# Altium integrated library TI_Logic_Little_Logic.IntLib: 1164 symbols (part 1 of 35)
Pins are listed as number, name and electrical type; pins without a type are passive.

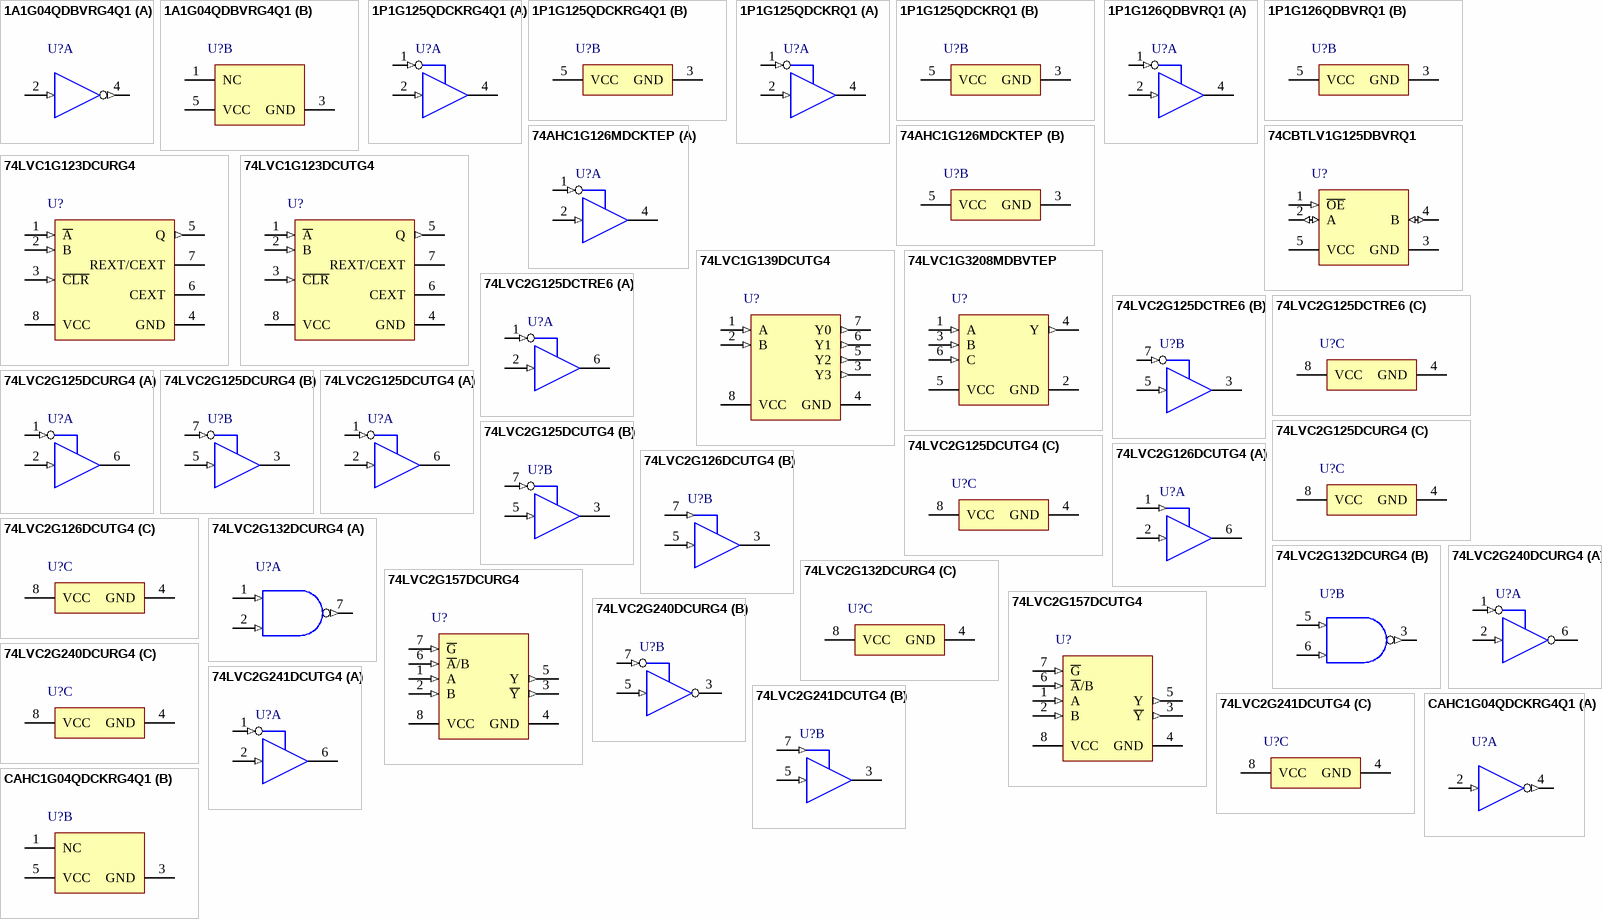
[diagram p0: symbols 1A1G04QDBVRG4Q1 to CAHC1G04QDCKRG4Q1]

## 1A1G04QDBVRG4Q1
designator U?
Automotive Catalog Single Inverter Gate, DBV0005A, LARGE T&R; Generic Part Number: SN74AHC1G04-Q1; Manufacturer: Texas Instruments; PartNumber: 1A1G04QDBVRG4Q1; VCC(Min)(V): 2; VCC(Max)(V): 5.5; Output Type: CMOS; ICC @ Nom Voltage(Max)(mA): 0.01; Bits(#): 1; F @ Nom Voltage(Max)(Mhz): 75; Technology Family: AHC; Voltage(Nom)(V): 3.3,5; Schmitt Trigger: No; Output Drive (IOL/IOH)(Max)(mA): 50/-50; tpd @ Nom Voltage(Max)(ns): 10.6,7.5; Logic: Inverting; Sub-Family: Inverting Buffer/Driver; DatasheetVersion: SCLS540A; PackageReference: DBV0005A; Supplier 1: Mouser; Supplier Part Number 1: 595-1A1G04QDBVRG4Q1; Supplier 2: Digi-Key; Supplier Part Number 2: 1A1G04QDBVRG4Q1-ND; Input Type: CMOS; Operating Temperature Range(C): -40 to 125; Rating: Automotive; 3-State Output: No; ComponentLink1Description: Manufacturer URL; ComponentLink1URL: http://www.ti.com/; ComponentLink2Description: Datasheet; ComponentLink2URL: http://www.ti.com/lit/ds/symlink/sn74ahc1g04-q1.pdf
footprint DBV0005A_N (SOT23, 5-Leads, Body 3.05x1.75mm, Pitch 0.95mm, IPC Medium Density)
footprint DBV0005A_M (SOT23, 5-Leads, Body 3.05x1.75mm, Pitch 0.95mm, IPC Low Density)
footprint DBV0005A_L (SOT23, 5-Leads, Body 3.05x1.75mm, Pitch 0.95mm, IPC High Density)
part A pins: 2 A (in) "Input A", 4 Y (out) "Output Y"
part B pins: 1 NC "Ground", 3 GND (power) "Ground Pin", 5 VCC (power) "Power Pin"

## 1P1G125QDCKRG4Q1
designator U?
Automotive Catalog Single Bus Buffer Gate With 3-State Output, DCK0005A, LARGE T&R; Generic Part Number: SN74LVC1G125-Q1; Manufacturer: Texas Instruments; PartNumber: 1P1G125QDCKRG4Q1; VCC(Min)(V): 1.65; VCC(Max)(V): 5.5; Output Type: CMOS; ICC @ Nom Voltage(Max)(mA): 0.01; Input Type: CMOS/TTL; Bits(#): 1; F @ Nom Voltage(Max)(Mhz): 150; Technology Family: LVC; Voltage(Nom)(V): 1.8,2.5,3.3,5; Schmitt Trigger: No; Output Drive (IOL/IOH)(Max)(mA): 32/-32; tpd @ Nom Voltage(Max)(ns): 5.1,4.1; Logic: True; Sub-Family: Non-Inverting Buffer/Driver; 3-State Output: Yes; DatasheetVersion: SGES002C; PackageReference: DCK0005A; Supplier 1: Mouser; Supplier Part Number 1: 595-1P1G125QDCKRG4Q1; Supplier 2: Digi-Key; Supplier Part Number 2: 296-32004-2-ND; Supplier 3: Digi-Key; Supplier Part Number 3: 296-32004-1-ND; Supplier 4: Digi-Key; Supplier Part Number 4: 296-32004-6-ND; Operating Temperature Range(C): -40 to 125; Rating: Automotive; ComponentLink1Description: Manufacturer URL; ComponentLink1URL: http://www.ti.com/; ComponentLink2Description: Datasheet; ComponentLink2URL: http://www.ti.com/lit/ds/symlink/sn74lvc1g125-q1.pdf
footprint DCK0005A_N (SOT23, 5-Leads, Body 2.15x1.4mm, Pitch 0.65mm, IPC Medium Density)
footprint DCK0005A_M (SOT23, 5-Leads, Body 2.15x1.4mm, Pitch 0.65mm, IPC Low Density)
footprint DCK0005A_L (SOT23, 5-Leads, Body 2.15x1.4mm, Pitch 0.65mm, IPC High Density)
part A pins: 1 ~{OE} (in), 2 A (in), 4 Y (hiz)
part B pins: 3 GND (power), 5 VCC (power)

## 1P1G125QDCKRQ1
designator U?
Automotive Catalog Single Bus Buffer Gate With 3-State Output, DCK0005A, LARGE T&R; Generic Part Number: SN74LVC1G125-Q1; Manufacturer: Texas Instruments; PartNumber: 1P1G125QDCKRQ1; VCC(Min)(V): 1.65; VCC(Max)(V): 5.5; Output Type: CMOS; ICC @ Nom Voltage(Max)(mA): 0.01; Input Type: CMOS/TTL; Bits(#): 1; F @ Nom Voltage(Max)(Mhz): 150; Technology Family: LVC; Voltage(Nom)(V): 1.8,2.5,3.3,5; Schmitt Trigger: No; Output Drive (IOL/IOH)(Max)(mA): 32/-32; tpd @ Nom Voltage(Max)(ns): 5.1,4.1; Logic: True; Sub-Family: Non-Inverting Buffer/Driver; 3-State Output: Yes; DatasheetVersion: SGES002C; PackageReference: DCK0005A; Supplier 1: Mouser; Supplier Part Number 1: 595-1P1G125QDCKRQ1; Supplier 2: Digi-Key; Supplier Part Number 2: 296-18348-2-ND; Supplier 3: Digi-Key; Supplier Part Number 3: 296-18348-1-ND; Supplier 4: Digi-Key; Supplier Part Number 4: 296-18348-6-ND; Operating Temperature Range(C): -40 to 125; Rating: Automotive; ComponentLink1Description: Manufacturer URL; ComponentLink1URL: http://www.ti.com/; ComponentLink2Description: Datasheet; ComponentLink2URL: http://www.ti.com/lit/ds/symlink/sn74lvc1g125-q1.pdf
footprint DCK0005A_N (SOT23, 5-Leads, Body 2.15x1.4mm, Pitch 0.65mm, IPC Medium Density)
footprint DCK0005A_M (SOT23, 5-Leads, Body 2.15x1.4mm, Pitch 0.65mm, IPC Low Density)
footprint DCK0005A_L (SOT23, 5-Leads, Body 2.15x1.4mm, Pitch 0.65mm, IPC High Density)
part A pins: 1 ~{OE} (in), 2 A (in), 4 Y (hiz)
part B pins: 3 GND (power), 5 VCC (power)

## 1P1G126QDBVRQ1
designator U?
Automotive Catalog Single Bus Buffer Gate With 3-State Outputs, DBV0005A, LARGE T&R; Generic Part Number: SN74LVC1G126-Q1; Manufacturer: Texas Instruments; PartNumber: 1P1G126QDBVRQ1; VCC(Min)(V): 1.65; VCC(Max)(V): 5.5; Output Type: CMOS; ICC @ Nom Voltage(Max)(mA): 0.01; Input Type: CMOS/TTL; Bits(#): 1; F @ Nom Voltage(Max)(Mhz): 150; Technology Family: LVC; Voltage(Nom)(V): 1.8,2.5,3.3,5; Schmitt Trigger: No; Output Drive (IOL/IOH)(Max)(mA): 32/-32; tpd @ Nom Voltage(Max)(ns): 5.8,4.5; Logic: True; Sub-Family: Non-Inverting Buffer/Driver; 3-State Output: Yes; DatasheetVersion: SCES467B; PackageReference: DBV0005A; Supplier 1: Mouser; Supplier Part Number 1: 595-1P1G126QDBVRQ1; Supplier 2: Digi-Key; Supplier Part Number 2: 296-23596-2-ND; Supplier 3: Digi-Key; Supplier Part Number 3: 296-23596-1-ND; Supplier 4: Digi-Key; Supplier Part Number 4: 296-23596-6-ND; Operating Temperature Range(C): -40 to 125; Rating: Automotive; ComponentLink1Description: Manufacturer URL; ComponentLink1URL: http://www.ti.com/; ComponentLink2Description: Datasheet; ComponentLink2URL: http://www.ti.com/lit/ds/symlink/sn74lvc1g126-q1.pdf
footprint DBV0005A_N (SOT23, 5-Leads, Body 3.05x1.75mm, Pitch 0.95mm, IPC Medium Density)
footprint DBV0005A_M (SOT23, 5-Leads, Body 3.05x1.75mm, Pitch 0.95mm, IPC Low Density)
footprint DBV0005A_L (SOT23, 5-Leads, Body 3.05x1.75mm, Pitch 0.95mm, IPC High Density)
part A pins: 1 OE (in), 2 A (in), 4 Y (hiz)
part B pins: 3 GND (power), 5 VCC (power)

## 74AHC1G126MDCKTEP
designator U?
Single Bus Buffer Gate With 3-State Output, SN74AHC1G126-EP, DCK0005A, SMALL T&R; Manufacturer: Texas Instruments; PartNumber: 74AHC1G126MDCKTEP; VCC(Min)(V): 2; VCC(Max)(V): 5.5; Output Type: CMOS; Logic: True; ICC @ Nom Voltage(Max)(mA): 0.01; Bits(#): 1; F @ Nom Voltage(Max)(Mhz): 75; Rating: HiRel Enhanced Product; Technology Family: AHC; Voltage(Nom)(V): 3.3,5; Schmitt Trigger: No; Output Drive (IOL/IOH)(Max)(mA): 50/-50; Sub-Family: Non-Inverting Buffer/Driver; 3-State Output: Yes; tpd @ Nom Voltage(Max)(ns): 13,8.5; DatasheetVersion: SCLS731; PackageReference: DCK0005A; Supplier 1: Mouser; Supplier Part Number 1: 595-AHC1G126MDCKTEP; Supplier 2: Digi-Key; Supplier Part Number 2: 296-39839-2-ND; Supplier 3: Digi-Key; Supplier Part Number 3: 296-39839-1-ND; Supplier 4: Digi-Key; Supplier Part Number 4: 296-39839-6-ND; Generic Part Number: SN74AHC1G126-EP; Input Type: CMOS; Operating Temperature Range(C): -55 to 125; ComponentLink1Description: Manufacturer URL; ComponentLink1URL: http://www.ti.com/; ComponentLink2Description: Datasheet; ComponentLink2URL: http://www.ti.com/lit/ds/symlink/sn74ahc1g126-ep.pdf
footprint DCK0005A_N (SOT23, 5-Leads, Body 2.15x1.4mm, Pitch 0.65mm, IPC Medium Density)
footprint DCK0005A_M (SOT23, 5-Leads, Body 2.15x1.4mm, Pitch 0.65mm, IPC Low Density)
footprint DCK0005A_L (SOT23, 5-Leads, Body 2.15x1.4mm, Pitch 0.65mm, IPC High Density)
part A pins: 1 OE (in), 2 A (in), 4 Y (hiz)
part B pins: 3 GND (power), 5 VCC (power)

## 74CBTLV1G125DBVRQ1
designator U?
Automotive Catalog Low-Voltage Single FET Bus Switch, DBV0005A, LARGE T&R; Generic Part Number: SN74CBTLV1G125-Q1; Manufacturer: Texas Instruments; PartNumber: 74CBTLV1G125DBVRQ1; VCC(Min)(V): 2.3; VCC(Max)(V): 3.6; Output Type: CMOS; Logic: True; ICC @ Nom Voltage(Max)(mA): 0.01; Input Type: LV-CMOS; Bits(#): 1; F @ Nom Voltage(Max)(Mhz): 200; Technology Family: CBTLV; Voltage(Nom)(V): 3.3; Schmitt Trigger: No; Sub-Family: Analog Switch; Switch Configuration: SPST; tpd @ Nom Voltage(Max)(ns): 0.25; DatasheetVersion: SCDS289; PackageReference: DBV0005A; Supplier 1: Mouser; Supplier Part Number 1: 595-CBTLV1G125DBVRQ1; Supplier 2: Digi-Key; Supplier Part Number 2: 296-37315-2-ND; Supplier 3: Digi-Key; Supplier Part Number 3: 296-37315-1-ND; Supplier 4: Digi-Key; Supplier Part Number 4: 296-37315-6-ND; Operating Temperature Range(C): -40 to 125; Channels(#): 1; Rating: Automotive; 3-State Output: No; ComponentLink1Description: Manufacturer URL; ComponentLink1URL: http://www.ti.com/; ComponentLink2Description: Datasheet; ComponentLink2URL: http://www.ti.com/lit/ds/symlink/sn74cbtlv1g125-q1.pdf
footprint DBV0005A_N (SOT23, 5-Leads, Body 3.05x1.75mm, Pitch 0.95mm, IPC Medium Density)
footprint DBV0005A_M (SOT23, 5-Leads, Body 3.05x1.75mm, Pitch 0.95mm, IPC Low Density)
footprint DBV0005A_L (SOT23, 5-Leads, Body 3.05x1.75mm, Pitch 0.95mm, IPC High Density)
pins: 1 ~{OE} (in), 2 A (io), 3 GND (power), 4 B (io), 5 VCC (power)

## 74LVC1G123DCURG4
designator U?
Single Retriggerable Monostable Multivibrator with Schmitt-Trigger Inputs, DCU0008A, LARGE T&R; Generic Part Number: SN74LVC1G123; Manufacturer: Texas Instruments; PartNumber: 74LVC1G123DCURG4; VCC(Min)(V): 1.65; VCC(Max)(V): 5.5; Output Type: CMOS; ICC @ Nom Voltage(Max)(mA): 0.02; Input Type: CMOS/TTL; Bits(#): 1; F @ Nom Voltage(Max)(Mhz): 150; Rating: Catalog; Technology Family: LVC; Voltage(Nom)(V): 1.8,2.5,3.3,5; Schmitt Trigger: Yes; Output Drive (IOL/IOH)(Max)(mA): 32/-32; tpd @ Nom Voltage(Max)(ns): 34,11,8,5.5; Logic: True; 3-State Output: No; DatasheetVersion: SCES586C; PackageReference: DCU0008A; Supplier 1: Mouser; Supplier Part Number 1: 595-74LVC1G123DCURG4; Supplier 2: Digi-Key; Supplier Part Number 2: 74LVC1G123DCURG4-ND; Operating Temperature Range(C): -40 to 125,-40 to 85; Sub-Family: Monostable Multivibrator; Specialty Logic Family: Monostable Multivibrator; ComponentLink1Description: Manufacturer URL; ComponentLink1URL: http://www.ti.com/; ComponentLink2Description: Datasheet; ComponentLink2URL: http://www.ti.com/lit/ds/symlink/sn74lvc1g123.pdf
footprint DCU0008A_N (SOP, 8-Leads, Body 2.4x2.1mm, Pitch 0.5mm, IPC Medium Density)
footprint DCU0008A_M (SOP, 8-Leads, Body 2.4x2.1mm, Pitch 0.5mm, IPC Low Density)
footprint DCU0008A_L (SOP, 8-Leads, Body 2.4x2.1mm, Pitch 0.5mm, IPC High Density)
pins: 1 ~{A} (in), 2 B (in), 3 ~{CLR} (in), 4 GND (power), 5 Q (out), 6 CEXT, 7 REXT/CEXT, 8 VCC (power)

## 74LVC1G123DCUTG4
designator U?
Single Retriggerable Monostable Multivibrator with Schmitt-Trigger Inputs, DCU0008A, SMALL T&R; Generic Part Number: SN74LVC1G123; Manufacturer: Texas Instruments; PartNumber: 74LVC1G123DCUTG4; VCC(Min)(V): 1.65; VCC(Max)(V): 5.5; Output Type: CMOS; ICC @ Nom Voltage(Max)(mA): 0.02; Input Type: CMOS/TTL; Bits(#): 1; F @ Nom Voltage(Max)(Mhz): 150; Rating: Catalog; Technology Family: LVC; Voltage(Nom)(V): 1.8,2.5,3.3,5; Schmitt Trigger: Yes; Output Drive (IOL/IOH)(Max)(mA): 32/-32; tpd @ Nom Voltage(Max)(ns): 34,11,8,5.5; Logic: True; 3-State Output: No; DatasheetVersion: SCES586C; PackageReference: DCU0008A; Supplier 1: Mouser; Supplier Part Number 1: 595-74LVC1G123DCUTG4; Supplier 2: Digi-Key; Supplier Part Number 2: 74LVC1G123DCUTG4-ND; Operating Temperature Range(C): -40 to 125,-40 to 85; Sub-Family: Monostable Multivibrator; Specialty Logic Family: Monostable Multivibrator; ComponentLink1Description: Manufacturer URL; ComponentLink1URL: http://www.ti.com/; ComponentLink2Description: Datasheet; ComponentLink2URL: http://www.ti.com/lit/ds/symlink/sn74lvc1g123.pdf
footprint DCU0008A_N (SOP, 8-Leads, Body 2.4x2.1mm, Pitch 0.5mm, IPC Medium Density)
footprint DCU0008A_M (SOP, 8-Leads, Body 2.4x2.1mm, Pitch 0.5mm, IPC Low Density)
footprint DCU0008A_L (SOP, 8-Leads, Body 2.4x2.1mm, Pitch 0.5mm, IPC High Density)
pins: 1 ~{A} (in), 2 B (in), 3 ~{CLR} (in), 4 GND (power), 5 Q (out), 6 CEXT, 7 REXT/CEXT, 8 VCC (power)

## 74LVC1G139DCUTG4
designator U?
2-Line-to-4-Line Decoder, DCU0008A, SMALL T&R; Generic Part Number: SN74LVC1G139; Manufacturer: Texas Instruments; PartNumber: 74LVC1G139DCUTG4; VCC(Min)(V): 1.65; VCC(Max)(V): 5.5; Output Type: CMOS; ICC @ Nom Voltage(Max)(mA): 0.01; Input Type: CMOS/TTL; Bits(#): 1; F @ Nom Voltage(Max)(Mhz): 150; Rating: Catalog; Technology Family: LVC; Voltage(Nom)(V): 1.8,2.5,3.3,5; Schmitt Trigger: No; Output Drive (IOL/IOH)(Max)(mA): 32/-32; tpd @ Nom Voltage(Max)(ns): 16.5,7.5,4.9,3.6; Logic: True; Sub-Family: Decoder/Encoder/Multiplexer; DatasheetVersion: SCES602C; PackageReference: DCU0008A; Supplier 1: Mouser; Supplier Part Number 1: 595-74LVC1G139DCUTG4; Supplier 2: Digi-Key; Supplier Part Number 2: 74LVC1G139DCUTG4-ND; Operating Temperature Range(C): -40 to 85; Specialty Logic Family: Decoder/Encoder/Multiplexer; 3-State Output: No; ComponentLink1Description: Manufacturer URL; ComponentLink1URL: http://www.ti.com/; ComponentLink2Description: Datasheet; ComponentLink2URL: http://www.ti.com/lit/ds/symlink/sn74lvc1g139.pdf
footprint DCU0008A_N (SOP, 8-Leads, Body 2.4x2.1mm, Pitch 0.5mm, IPC Medium Density)
footprint DCU0008A_M (SOP, 8-Leads, Body 2.4x2.1mm, Pitch 0.5mm, IPC Low Density)
footprint DCU0008A_L (SOP, 8-Leads, Body 2.4x2.1mm, Pitch 0.5mm, IPC High Density)
pins: 1 A (in), 2 B (in), 3 Y3 (out), 4 GND (power), 5 Y2 (out), 6 Y1 (out), 7 Y0 (out), 8 VCC (power)

## 74LVC1G3208MDBVTEP
designator U?
Enhanced Product Single 3-Input Positive OR-AND Gate, DBV0006A, SMALL T&R; Generic Part Number: SN74LVC1G3208-EP; Manufacturer: Texas Instruments; PartNumber: 74LVC1G3208MDBVTEP; VCC(Min)(V): 1.65; VCC(Max)(V): 5.5; Output Type: CMOS; Logic: True; ICC @ Nom Voltage(Max)(mA): 0.0125; Input Type: CMOS/TTL; Bits(#): 1; F @ Nom Voltage(Max)(Mhz): 150; Gate Type: Configurable; Rating: HiRel Enhanced Product; Technology Family: LVC; Voltage(Nom)(V): 1.8,2.5,3.3,5; Schmitt Trigger: No; Output Drive (IOL/IOH)(Max)(mA): 32/-32; Sub-Family: Configurable Logic; tpd @ Nom Voltage(Max)(ns): 17.5,7.6,5.9,4.0; DatasheetVersion: SCES846A; PackageReference: DBV0006A; Supplier 1: Mouser; Supplier Part Number 1: 595-74C1G3208MDBVTEP; Supplier 2: Digi-Key; Supplier Part Number 2: 296-41067-2-ND; Supplier 3: Digi-Key; Supplier Part Number 3: 296-41067-1-ND; Supplier 4: Digi-Key; Supplier Part Number 4: 296-41067-6-ND; Operating Temperature Range(C): -55 to 125; 3-State Output: No; ComponentLink1Description: Manufacturer URL; ComponentLink1URL: http://www.ti.com/; ComponentLink2Description: Datasheet; ComponentLink2URL: http://www.ti.com/lit/ds/symlink/sn74lvc1g3208-ep.pdf
footprint DBV0006A_N (SOT23, 6-Leads, Body 3.05x1.75mm, Pitch 0.95mm, IPC Medium Density)
footprint DBV0006A_M (SOT23, 6-Leads, Body 3.05x1.75mm, Pitch 0.95mm, IPC Low Density)
footprint DBV0006A_L (SOT23, 6-Leads, Body 3.05x1.75mm, Pitch 0.95mm, IPC High Density)
pins: 1 A (in), 2 GND (power), 3 B (in), 4 Y (out), 5 VCC (power), 6 C (in)

## 74LVC2G125DCTRE6
designator U?
Dual Bus Buffer Gate with 3-State Outputs, DCT0008A, LARGE T&R; Generic Part Number: SN74LVC2G125; Manufacturer: Texas Instruments; PartNumber: 74LVC2G125DCTRE6; VCC(Min)(V): 1.65; VCC(Max)(V): 5.5; Output Type: CMOS; ICC @ Nom Voltage(Max)(mA): 0.01; Input Type: CMOS/TTL; Bits(#): 2; F @ Nom Voltage(Max)(Mhz): 150; Rating: Catalog; Technology Family: LVC; Voltage(Nom)(V): 1.8,2.5,3.3,5; Schmitt Trigger: No; Output Drive (IOL/IOH)(Max)(mA): 32/-32; tpd @ Nom Voltage(Max)(ns): 9.1,4.8,4.3,3.7; Logic: True; Sub-Family: Non-Inverting Buffer/Driver; 3-State Output: Yes; DatasheetVersion: SCES204O; PackageReference: DCT0008A; Supplier 1: Mouser; Supplier Part Number 1: 595-74LVC2G125DCTRE6; Supplier 2: Digi-Key; Supplier Part Number 2: 296-32006-2-ND; Supplier 3: Digi-Key; Supplier Part Number 3: 296-32006-1-ND; Supplier 4: Digi-Key; Supplier Part Number 4: 296-32006-6-ND; Operating Temperature Range(C): -40 to 125; ComponentLink1Description: Manufacturer URL; ComponentLink1URL: http://www.ti.com/; ComponentLink2Description: Datasheet; ComponentLink2URL: http://www.ti.com/lit/ds/symlink/sn74lvc2g125.pdf
footprint DCT0008A_N (SOP, 8-Leads, Body 2.9x3.2mm, Pitch 0.65mm, IPC Medium Density)
footprint DCT0008A_M (SOP, 8-Leads, Body 2.9x3.2mm, Pitch 0.65mm, IPC Low Density)
footprint DCT0008A_L (SOP, 8-Leads, Body 2.9x3.2mm, Pitch 0.65mm, IPC High Density)
part A pins: 1 1~{OE} (in) "Output Enable for buffer 1", 2 1A (in) "Input", 6 1Y (hiz) "Output"
part B pins: 3 2Y (hiz) "Output", 5 2A (in) "Input", 7 2~{OE} (in) "Output Enable for buffer 2"
part C pins: 4 GND (power) "Ground Pin", 8 VCC (power) "Power Pin"

## 74LVC2G125DCURG4
designator U?
Dual Bus Buffer Gate with 3-State Outputs, DCU0008A, LARGE T&R; Generic Part Number: SN74LVC2G125; Manufacturer: Texas Instruments; PartNumber: 74LVC2G125DCURG4; VCC(Min)(V): 1.65; VCC(Max)(V): 5.5; Output Type: CMOS; ICC @ Nom Voltage(Max)(mA): 0.01; Input Type: CMOS/TTL; Bits(#): 2; F @ Nom Voltage(Max)(Mhz): 150; Rating: Catalog; Technology Family: LVC; Voltage(Nom)(V): 1.8,2.5,3.3,5; Schmitt Trigger: No; Output Drive (IOL/IOH)(Max)(mA): 32/-32; tpd @ Nom Voltage(Max)(ns): 9.1,4.8,4.3,3.7; Logic: True; Sub-Family: Non-Inverting Buffer/Driver; 3-State Output: Yes; DatasheetVersion: SCES204O; PackageReference: DCU0008A; Supplier 1: Mouser; Supplier Part Number 1: 595-74LVC2G125DCURG4; Supplier 2: Digi-Key; Supplier Part Number 2: 296-32007-2-ND; Supplier 3: Digi-Key; Supplier Part Number 3: 296-32007-1-ND; Supplier 4: Digi-Key; Supplier Part Number 4: 296-32007-6-ND; Operating Temperature Range(C): -40 to 125; ComponentLink1Description: Manufacturer URL; ComponentLink1URL: http://www.ti.com/; ComponentLink2Description: Datasheet; ComponentLink2URL: http://www.ti.com/lit/ds/symlink/sn74lvc2g125.pdf
footprint DCU0008A_N (SOP, 8-Leads, Body 2.4x2.1mm, Pitch 0.5mm, IPC Medium Density)
footprint DCU0008A_M (SOP, 8-Leads, Body 2.4x2.1mm, Pitch 0.5mm, IPC Low Density)
footprint DCU0008A_L (SOP, 8-Leads, Body 2.4x2.1mm, Pitch 0.5mm, IPC High Density)
part A pins: 1 1~{OE} (in) "Output Enable for buffer 1", 2 1A (in) "Input", 6 1Y (hiz) "Output"
part B pins: 3 2Y (hiz) "Output", 5 2A (in) "Input", 7 2~{OE} (in) "Output Enable for buffer 2"
part C pins: 4 GND (power) "Ground Pin", 8 VCC (power) "Power Pin"

## 74LVC2G125DCUTG4
designator U?
Dual Bus Buffer Gate with 3-State Outputs, DCU0008A, SMALL T&R; Generic Part Number: SN74LVC2G125; Manufacturer: Texas Instruments; PartNumber: 74LVC2G125DCUTG4; VCC(Min)(V): 1.65; VCC(Max)(V): 5.5; Output Type: CMOS; ICC @ Nom Voltage(Max)(mA): 0.01; Input Type: CMOS/TTL; Bits(#): 2; F @ Nom Voltage(Max)(Mhz): 150; Rating: Catalog; Technology Family: LVC; Voltage(Nom)(V): 1.8,2.5,3.3,5; Schmitt Trigger: No; Output Drive (IOL/IOH)(Max)(mA): 32/-32; tpd @ Nom Voltage(Max)(ns): 9.1,4.8,4.3,3.7; Logic: True; Sub-Family: Non-Inverting Buffer/Driver; 3-State Output: Yes; DatasheetVersion: SCES204O; PackageReference: DCU0008A; Supplier 1: Mouser; Supplier Part Number 1: 595-74LVC2G125DCUTG4; Supplier 2: Digi-Key; Supplier Part Number 2: 74LVC2G125DCUTG4-ND; Operating Temperature Range(C): -40 to 125; ComponentLink1Description: Manufacturer URL; ComponentLink1URL: http://www.ti.com/; ComponentLink2Description: Datasheet; ComponentLink2URL: http://www.ti.com/lit/ds/symlink/sn74lvc2g125.pdf
footprint DCU0008A_N (SOP, 8-Leads, Body 2.4x2.1mm, Pitch 0.5mm, IPC Medium Density)
footprint DCU0008A_M (SOP, 8-Leads, Body 2.4x2.1mm, Pitch 0.5mm, IPC Low Density)
footprint DCU0008A_L (SOP, 8-Leads, Body 2.4x2.1mm, Pitch 0.5mm, IPC High Density)
part A pins: 1 1~{OE} (in) "Output Enable for buffer 1", 2 1A (in) "Input", 6 1Y (hiz) "Output"
part B pins: 3 2Y (hiz) "Output", 5 2A (in) "Input", 7 2~{OE} (in) "Output Enable for buffer 2"
part C pins: 4 GND (power) "Ground Pin", 8 VCC (power) "Power Pin"

## 74LVC2G126DCUTG4
designator U?
Dual Bus Buffer Gate With 3-State Outputs, DCU0008A, SMALL T&R; Generic Part Number: SN74LVC2G126; Manufacturer: Texas Instruments; PartNumber: 74LVC2G126DCUTG4; VCC(Min)(V): 1.65; VCC(Max)(V): 5.5; Output Type: CMOS; ICC @ Nom Voltage(Max)(mA): 0.01; Input Type: CMOS/TTL; Bits(#): 2; F @ Nom Voltage(Max)(Mhz): 150; Rating: Catalog; Technology Family: LVC; Voltage(Nom)(V): 1.8,2.5,3.3,5; Schmitt Trigger: No; Output Drive (IOL/IOH)(Max)(mA): 32/-32; tpd @ Nom Voltage(Max)(ns): 9.8,4.9,4,3.2; Logic: True; Sub-Family: Non-Inverting Buffer/Driver; 3-State Output: Yes; DatasheetVersion: SCES205L; PackageReference: DCU0008A; Supplier 1: Mouser; Supplier Part Number 1: 595-74LVC2G126DCUTG4; Supplier 2: Digi-Key; Supplier Part Number 2: 74LVC2G126DCUTG4-ND; Operating Temperature Range(C): -40 to 125; ComponentLink1Description: Manufacturer URL; ComponentLink1URL: http://www.ti.com/; ComponentLink2Description: Datasheet; ComponentLink2URL: http://www.ti.com/lit/ds/symlink/sn74lvc2g126.pdf
footprint DCU0008A_N (SOP, 8-Leads, Body 2.4x2.1mm, Pitch 0.5mm, IPC Medium Density)
footprint DCU0008A_M (SOP, 8-Leads, Body 2.4x2.1mm, Pitch 0.5mm, IPC Low Density)
footprint DCU0008A_L (SOP, 8-Leads, Body 2.4x2.1mm, Pitch 0.5mm, IPC High Density)
part A pins: 1 1OE (in), 2 1A (in), 6 1Y (hiz)
part B pins: 3 2Y (hiz), 5 2A (in), 7 2OE (in)
part C pins: 4 GND (power) "Ground Pin", 8 VCC (power) "Power Pin"

## 74LVC2G132DCURG4
designator U?
Dual 2-Input NAND Gate with Schmitt-Trigger Inputs, DCU0008A, LARGE T&R; Generic Part Number: SN74LVC2G132; Manufacturer: Texas Instruments; PartNumber: 74LVC2G132DCURG4; VCC(Min)(V): 1.65; VCC(Max)(V): 5.5; Output Type: CMOS; ICC @ Nom Voltage(Max)(mA): 0.01; Input Type: CMOS/TTL; Bits(#): 2; F @ Nom Voltage(Max)(Mhz): 150; Rating: Catalog; Technology Family: LVC; Voltage(Nom)(V): 1.8,2.5,3.3,5; Schmitt Trigger: Yes; Output Drive (IOL/IOH)(Max)(mA): 32/-32; tpd @ Nom Voltage(Max)(ns): 16,7.5,6,5; Logic: True; 3-State Output: No; DatasheetVersion: SCES547D; PackageReference: DCU0008A; Supplier 1: Mouser; Supplier Part Number 1: 595-74LVC2G132DCURG4; Supplier 2: Digi-Key; Supplier Part Number 2: 74LVC2G132DCURG4-ND; Operating Temperature Range(C): -40 to 125,-40 to 85; Gate Type: NAND; Sub-Family: AND Gate; ComponentLink1Description: Manufacturer URL; ComponentLink1URL: http://www.ti.com/; ComponentLink2Description: Datasheet; ComponentLink2URL: http://www.ti.com/lit/ds/symlink/sn74lvc2g132.pdf
footprint DCU0008A_N (SOP, 8-Leads, Body 2.4x2.1mm, Pitch 0.5mm, IPC Medium Density)
footprint DCU0008A_M (SOP, 8-Leads, Body 2.4x2.1mm, Pitch 0.5mm, IPC Low Density)
footprint DCU0008A_L (SOP, 8-Leads, Body 2.4x2.1mm, Pitch 0.5mm, IPC High Density)
part A pins: 1 1A (in) "A input for gate 1", 2 1B (in) "B input for gate 1", 7 1Y (out) "Output for gate 1"
part B pins: 3 2Y (out) "Output for gate 2", 5 2A (in) "A input for gate 2", 6 2B (in) "B input for gate 2"
part C pins: 4 GND (power) "Ground", 8 VCC (power) "Power input."

## 74LVC2G157DCURG4
designator U?
Single 2-Line to 1-Line Data Selector/Multiplexer, DCU0008A, LARGE T&R; Generic Part Number: SN74LVC2G157; Manufacturer: Texas Instruments; PartNumber: 74LVC2G157DCURG4; VCC(Min)(V): 1.65; VCC(Max)(V): 5.5; Output Type: CMOS; ICC @ Nom Voltage(Max)(mA): 0.01; Input Type: CMOS/TTL; Bits(#): 2; F @ Nom Voltage(Max)(Mhz): 150; Rating: Catalog; Technology Family: LVC; Voltage(Nom)(V): 1.8,2.5,3.3,5; Schmitt Trigger: No; Output Drive (IOL/IOH)(Max)(mA): 32/-32; tpd @ Nom Voltage(Max)(ns): 14,8,6,4; Logic: True; Sub-Family: Decoder/Encoder/Multiplexer; DatasheetVersion: SCES207L; PackageReference: DCU0008A; Supplier 1: Mouser; Supplier Part Number 1: 595-74LVC2G157DCURG4; Supplier 2: Digi-Key; Supplier Part Number 2: 74LVC2G157DCURG4-ND; Operating Temperature Range(C): -40 to 85; Specialty Logic Family: Decoder/Encoder/Multiplexer; 3-State Output: No; ComponentLink1Description: Manufacturer URL; ComponentLink1URL: http://www.ti.com/; ComponentLink2Description: Datasheet; ComponentLink2URL: http://www.ti.com/lit/ds/symlink/sn74lvc2g157.pdf
footprint DCU0008A_N (SOP, 8-Leads, Body 2.4x2.1mm, Pitch 0.5mm, IPC Medium Density)
footprint DCU0008A_M (SOP, 8-Leads, Body 2.4x2.1mm, Pitch 0.5mm, IPC Low Density)
footprint DCU0008A_L (SOP, 8-Leads, Body 2.4x2.1mm, Pitch 0.5mm, IPC High Density)
pins: 1 A (in), 2 B (in), 3 ~{Y} (out), 4 GND (power), 5 Y (out), 6 ~{A}/B (in), 7 ~{G} (in), 8 VCC (power)

## 74LVC2G157DCUTG4
designator U?
Single 2-Line to 1-Line Data Selector/Multiplexer, DCU0008A, SMALL T&R; Generic Part Number: SN74LVC2G157; Manufacturer: Texas Instruments; PartNumber: 74LVC2G157DCUTG4; VCC(Min)(V): 1.65; VCC(Max)(V): 5.5; Output Type: CMOS; ICC @ Nom Voltage(Max)(mA): 0.01; Input Type: CMOS/TTL; Bits(#): 2; F @ Nom Voltage(Max)(Mhz): 150; Rating: Catalog; Technology Family: LVC; Voltage(Nom)(V): 1.8,2.5,3.3,5; Schmitt Trigger: No; Output Drive (IOL/IOH)(Max)(mA): 32/-32; tpd @ Nom Voltage(Max)(ns): 14,8,6,4; Logic: True; Sub-Family: Decoder/Encoder/Multiplexer; DatasheetVersion: SCES207L; PackageReference: DCU0008A; Supplier 1: Mouser; Supplier Part Number 1: 595-74LVC2G157DCUTG4; Supplier 2: Digi-Key; Supplier Part Number 2: 74LVC2G157DCUTG4-ND; Operating Temperature Range(C): -40 to 85; Specialty Logic Family: Decoder/Encoder/Multiplexer; 3-State Output: No; ComponentLink1Description: Manufacturer URL; ComponentLink1URL: http://www.ti.com/; ComponentLink2Description: Datasheet; ComponentLink2URL: http://www.ti.com/lit/ds/symlink/sn74lvc2g157.pdf
footprint DCU0008A_N (SOP, 8-Leads, Body 2.4x2.1mm, Pitch 0.5mm, IPC Medium Density)
footprint DCU0008A_M (SOP, 8-Leads, Body 2.4x2.1mm, Pitch 0.5mm, IPC Low Density)
footprint DCU0008A_L (SOP, 8-Leads, Body 2.4x2.1mm, Pitch 0.5mm, IPC High Density)
pins: 1 A (in), 2 B (in), 3 ~{Y} (out), 4 GND (power), 5 Y (out), 6 ~{A}/B (in), 7 ~{G} (in), 8 VCC (power)

## 74LVC2G240DCURG4
designator U?
Dual Buffer/Driver With 3-State Outputs, DCU0008A, LARGE T&R; Generic Part Number: SN74LVC2G240; Manufacturer: Texas Instruments; PartNumber: 74LVC2G240DCURG4; VCC(Min)(V): 1.65; VCC(Max)(V): 5.5; Output Type: CMOS; ICC @ Nom Voltage(Max)(mA): 0.01; Input Type: CMOS/TTL; Bits(#): 2; F @ Nom Voltage(Max)(Mhz): 150; Rating: Catalog; Technology Family: LVC; Voltage(Nom)(V): 1.8,2.5,3.3,5; Schmitt Trigger: No; Output Drive (IOL/IOH)(Max)(mA): 32/-32; tpd @ Nom Voltage(Max)(ns): 13.7,6.8,5.8,5; Logic: Inverting; Sub-Family: Non-Inverting Buffer/Driver; 3-State Output: Yes; DatasheetVersion: SCES208I; PackageReference: DCU0008A; Supplier 1: Mouser; Supplier Part Number 1: 595-74LVC2G240DCURG4; Supplier 2: Digi-Key; Supplier Part Number 2: 74LVC2G240DCURG4-ND; Operating Temperature Range(C): -40 to 125; ComponentLink1Description: Manufacturer URL; ComponentLink1URL: http://www.ti.com/; ComponentLink2Description: Datasheet; ComponentLink2URL: http://www.ti.com/lit/ds/symlink/sn74lvc2g240.pdf
footprint DCU0008A_N (SOP, 8-Leads, Body 2.4x2.1mm, Pitch 0.5mm, IPC Medium Density)
footprint DCU0008A_M (SOP, 8-Leads, Body 2.4x2.1mm, Pitch 0.5mm, IPC Low Density)
footprint DCU0008A_L (SOP, 8-Leads, Body 2.4x2.1mm, Pitch 0.5mm, IPC High Density)
part A pins: 1 1~{OE} (in), 2 1A (in), 6 1Y (hiz)
part B pins: 3 2Y (hiz), 5 2A (in), 7 2~{OE} (in)
part C pins: 4 GND (power), 8 VCC (power)

## 74LVC2G241DCUTG4
designator U?
Dual Buffer/Driver With 3-State Outputs, DCU0008A, SMALL T&R; Generic Part Number: SN74LVC2G241; Manufacturer: Texas Instruments; PartNumber: 74LVC2G241DCUTG4; VCC(Min)(V): 1.65; VCC(Max)(V): 5.5; Output Type: CMOS; ICC @ Nom Voltage(Max)(mA): 0.01; Input Type: CMOS/TTL; Bits(#): 2; F @ Nom Voltage(Max)(Mhz): 150; Rating: Catalog; Technology Family: LVC; Voltage(Nom)(V): 1.8,2.5,3.3,5; Schmitt Trigger: No; Output Drive (IOL/IOH)(Max)(mA): 32/-32; tpd @ Nom Voltage(Max)(ns): 8.8,4.8,4.3,3.7; Logic: True; Sub-Family: Non-Inverting Buffer/Driver; 3-State Output: Yes; DatasheetVersion: SCES210N; PackageReference: DCU0008A; Supplier 1: Mouser; Supplier Part Number 1: 595-74LVC2G241DCUTG4; Supplier 2: Digi-Key; Supplier Part Number 2: 74LVC2G241DCUTG4-ND; Operating Temperature Range(C): -40 to 125; ComponentLink1Description: Manufacturer URL; ComponentLink1URL: http://www.ti.com/; ComponentLink2Description: Datasheet; ComponentLink2URL: http://www.ti.com/lit/ds/symlink/sn74lvc2g241.pdf
footprint DCU0008A_N (SOP, 8-Leads, Body 2.4x2.1mm, Pitch 0.5mm, IPC Medium Density)
footprint DCU0008A_M (SOP, 8-Leads, Body 2.4x2.1mm, Pitch 0.5mm, IPC Low Density)
footprint DCU0008A_L (SOP, 8-Leads, Body 2.4x2.1mm, Pitch 0.5mm, IPC High Density)
part A pins: 1 1~{OE} (in), 2 1A (in), 6 1Y (hiz)
part B pins: 3 2Y (hiz), 5 2A (in), 7 2OE (in)
part C pins: 4 GND (power), 8 VCC (power)

## CAHC1G04QDCKRG4Q1
designator U?
Automotive Catalog Single Inverter Gate, DCK0005A, LARGE T&R; Generic Part Number: SN74AHC1G04-Q1; Manufacturer: Texas Instruments; PartNumber: CAHC1G04QDCKRG4Q1; VCC(Min)(V): 2; VCC(Max)(V): 5.5; Output Type: CMOS; ICC @ Nom Voltage(Max)(mA): 0.01; Bits(#): 1; F @ Nom Voltage(Max)(Mhz): 75; Technology Family: AHC; Voltage(Nom)(V): 3.3,5; Schmitt Trigger: No; Output Drive (IOL/IOH)(Max)(mA): 50/-50; tpd @ Nom Voltage(Max)(ns): 10.6,7.5; Logic: Inverting; Sub-Family: Inverting Buffer/Driver; DatasheetVersion: SCLS540A; PackageReference: DCK0005A; Supplier 1: Mouser; Supplier Part Number 1: 595-AHC1G04QDCKRG4Q1; Supplier 2: Digi-Key; Supplier Part Number 2: CAHC1G04QDCKRG4Q1-ND; Input Type: CMOS; Operating Temperature Range(C): -40 to 125; Rating: Automotive; 3-State Output: No; ComponentLink1Description: Manufacturer URL; ComponentLink1URL: http://www.ti.com/; ComponentLink2Description: Datasheet; ComponentLink2URL: http://www.ti.com/lit/ds/symlink/sn74ahc1g04-q1.pdf
footprint DCK0005A_N (SOT23, 5-Leads, Body 2.15x1.4mm, Pitch 0.65mm, IPC Medium Density)
footprint DCK0005A_M (SOT23, 5-Leads, Body 2.15x1.4mm, Pitch 0.65mm, IPC Low Density)
footprint DCK0005A_L (SOT23, 5-Leads, Body 2.15x1.4mm, Pitch 0.65mm, IPC High Density)
part A pins: 2 A (in) "Input A", 4 Y (out) "Output Y"
part B pins: 1 NC "Ground", 3 GND (power) "Ground Pin", 5 VCC (power) "Power Pin"

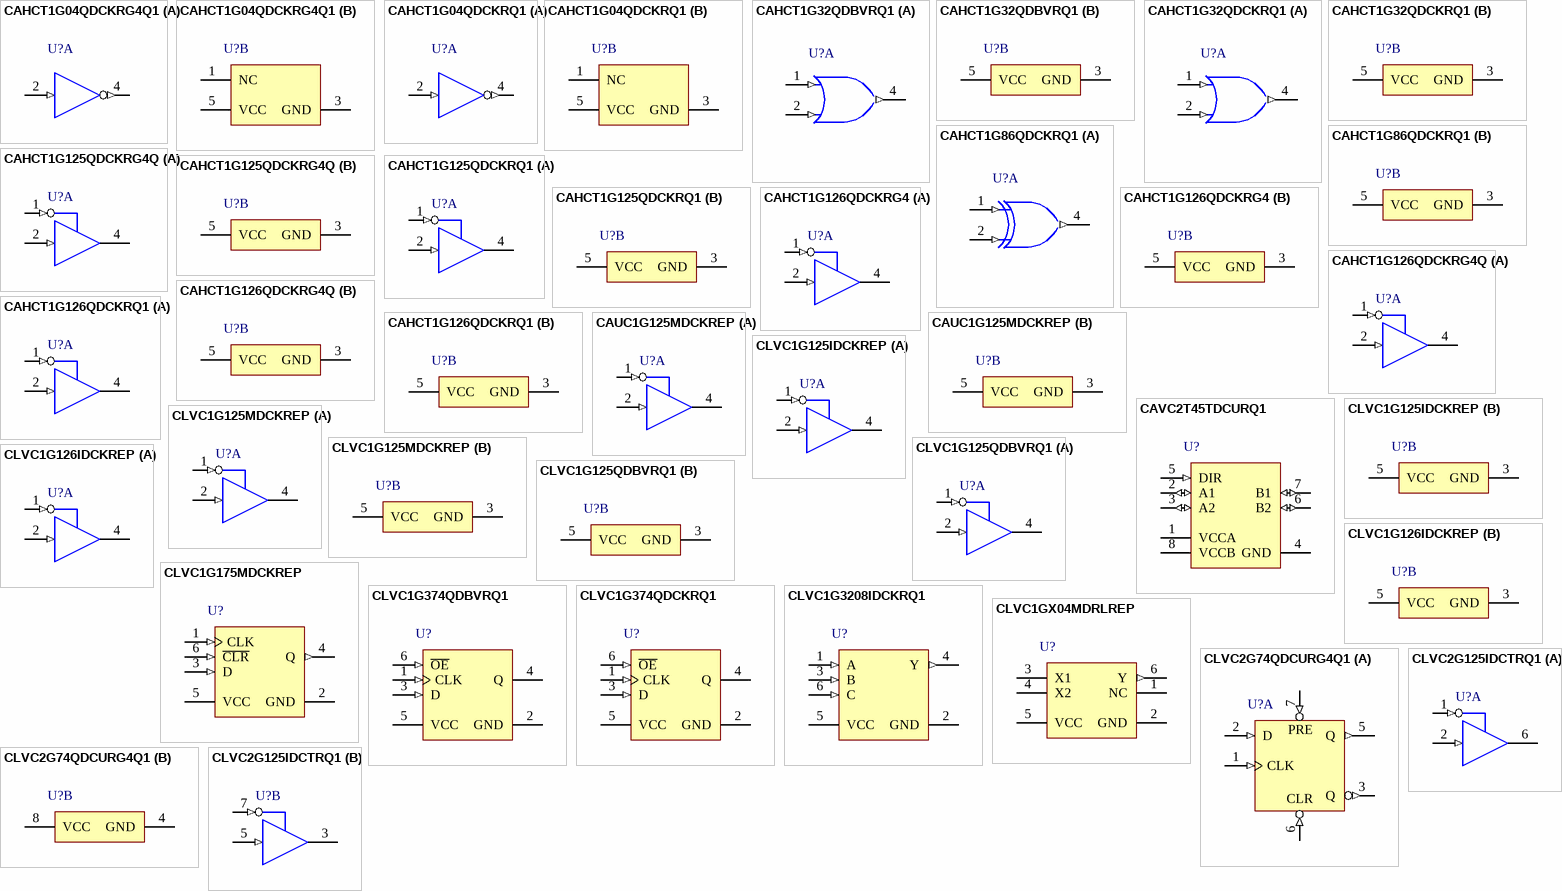
[diagram p1: symbols CAHCT1G04QDCKRG4Q1 to CLVC2G125IDCTRQ1]

## CAHCT1G04QDCKRG4Q1
designator U?
Automotive Catalog Single Inverter Gate, DCK0005A, LARGE T&R; Generic Part Number: SN74AHCT1G04-Q1; Manufacturer: Texas Instruments; PartNumber: CAHCT1G04QDCKRG4Q1; VCC(Min)(V): 2; VCC(Max)(V): 5.5; Output Type: CMOS; ICC @ Nom Voltage(Max)(mA): 0.01; Bits(#): 1; F @ Nom Voltage(Max)(Mhz): 75; Technology Family: AHCT; Voltage(Nom)(V): 5; Schmitt Trigger: No; Output Drive (IOL/IOH)(Max)(mA): 8/-8; tpd @ Nom Voltage(Max)(ns): 7.5; Logic: Inverting; Sub-Family: Inverting Buffer/Driver; DatasheetVersion: SCLS510A; PackageReference: DCK0005A; Supplier 1: Mouser; Supplier Part Number 1: 595-HCT1G04QDCKRG4Q1; Supplier 2: Digi-Key; Supplier Part Number 2: CAHCT1G04QDCKRG4Q1-ND; Input Type: CMOS; Operating Temperature Range(C): -40 to 125; Rating: Automotive; 3-State Output: No; ComponentLink1Description: Manufacturer URL; ComponentLink1URL: http://www.ti.com/; ComponentLink2Description: Datasheet; ComponentLink2URL: http://www.ti.com/lit/ds/symlink/sn74ahct1g04-q1.pdf
footprint DCK0005A_N (SOT23, 5-Leads, Body 2.15x1.4mm, Pitch 0.65mm, IPC Medium Density)
footprint DCK0005A_M (SOT23, 5-Leads, Body 2.15x1.4mm, Pitch 0.65mm, IPC Low Density)
footprint DCK0005A_L (SOT23, 5-Leads, Body 2.15x1.4mm, Pitch 0.65mm, IPC High Density)
part A pins: 2 A (in) "Input A", 4 Y (out) "Output Y"
part B pins: 1 NC "Ground", 3 GND (power) "Ground Pin", 5 VCC (power) "Power Pin"

## CAHCT1G04QDCKRQ1
designator U?
Automotive Catalog Single Inverter Gate, DCK0005A, LARGE T&R; Generic Part Number: SN74AHCT1G04-Q1; Manufacturer: Texas Instruments; PartNumber: CAHCT1G04QDCKRQ1; VCC(Min)(V): 2; VCC(Max)(V): 5.5; Output Type: CMOS; ICC @ Nom Voltage(Max)(mA): 0.01; Bits(#): 1; F @ Nom Voltage(Max)(Mhz): 75; Technology Family: AHCT; Voltage(Nom)(V): 5; Schmitt Trigger: No; Output Drive (IOL/IOH)(Max)(mA): 8/-8; tpd @ Nom Voltage(Max)(ns): 7.5; Logic: Inverting; Sub-Family: Inverting Buffer/Driver; DatasheetVersion: SCLS510A; PackageReference: DCK0005A; Supplier 1: Mouser; Supplier Part Number 1: 595-CAHCT1G04QDCKRQ1; Supplier 2: Digi-Key; Supplier Part Number 2: 296-24029-2-ND; Supplier 3: Digi-Key; Supplier Part Number 3: 296-24029-1-ND; Supplier 4: Digi-Key; Supplier Part Number 4: 296-24029-6-ND; Input Type: CMOS; Operating Temperature Range(C): -40 to 125; Rating: Automotive; 3-State Output: No; ComponentLink1Description: Manufacturer URL; ComponentLink1URL: http://www.ti.com/; ComponentLink2Description: Datasheet; ComponentLink2URL: http://www.ti.com/lit/ds/symlink/sn74ahct1g04-q1.pdf
footprint DCK0005A_N (SOT23, 5-Leads, Body 2.15x1.4mm, Pitch 0.65mm, IPC Medium Density)
footprint DCK0005A_M (SOT23, 5-Leads, Body 2.15x1.4mm, Pitch 0.65mm, IPC Low Density)
footprint DCK0005A_L (SOT23, 5-Leads, Body 2.15x1.4mm, Pitch 0.65mm, IPC High Density)
part A pins: 2 A (in) "Input A", 4 Y (out) "Output Y"
part B pins: 1 NC "Ground", 3 GND (power) "Ground Pin", 5 VCC (power) "Power Pin"

## CAHCT1G32QDBVRQ1
designator U?
Automotive Catalog Single 2-Input Positive-OR Gate, DBV0005A, LARGE T&R; Generic Part Number: SN74AHCT1G32-Q1; Manufacturer: Texas Instruments; PartNumber: CAHCT1G32QDBVRQ1; VCC(Min)(V): 2; VCC(Max)(V): 5.5; Output Type: CMOS; ICC @ Nom Voltage(Max)(mA): 0.01; Bits(#): 1; F @ Nom Voltage(Max)(Mhz): 75; Technology Family: AHCT; Voltage(Nom)(V): 5; Schmitt Trigger: No; Output Drive (IOL/IOH)(Max)(mA): 8/-8; tpd @ Nom Voltage(Max)(ns): 8; Logic: True; Gate Type: OR; Sub-Family: OR Gate; DatasheetVersion: SCLS606B; PackageReference: DBV0005A; Supplier 1: Mouser; Supplier Part Number 1: 595-CAHCT1G32QDBVRQ1; Supplier 2: Digi-Key; Supplier Part Number 2: 296-23141-2-ND; Supplier 3: Digi-Key; Supplier Part Number 3: 296-23141-1-ND; Supplier 4: Digi-Key; Supplier Part Number 4: 296-23141-6-ND; Input Type: CMOS; Operating Temperature Range(C): -40 to 125; Rating: Automotive; 3-State Output: No; ComponentLink1Description: Manufacturer URL; ComponentLink1URL: http://www.ti.com/; ComponentLink2Description: Datasheet; ComponentLink2URL: http://www.ti.com/lit/ds/symlink/sn74ahct1g32-q1.pdf
footprint DBV0005A_N (SOT23, 5-Leads, Body 3.05x1.75mm, Pitch 0.95mm, IPC Medium Density)
footprint DBV0005A_M (SOT23, 5-Leads, Body 3.05x1.75mm, Pitch 0.95mm, IPC Low Density)
footprint DBV0005A_L (SOT23, 5-Leads, Body 3.05x1.75mm, Pitch 0.95mm, IPC High Density)
part A pins: 1 A (in) "Input A", 2 B (in) "Input B", 4 Y (out) "Output Y"
part B pins: 3 GND (power) "Ground Pin", 5 VCC (power) "Power Pin"

## CAHCT1G32QDCKRQ1
designator U?
Automotive Catalog Single 2-Input Positive-OR Gate, DCK0005A, LARGE T&R; Generic Part Number: SN74AHCT1G32-Q1; Manufacturer: Texas Instruments; PartNumber: CAHCT1G32QDCKRQ1; VCC(Min)(V): 2; VCC(Max)(V): 5.5; Output Type: CMOS; ICC @ Nom Voltage(Max)(mA): 0.01; Bits(#): 1; F @ Nom Voltage(Max)(Mhz): 75; Technology Family: AHCT; Voltage(Nom)(V): 5; Schmitt Trigger: No; Output Drive (IOL/IOH)(Max)(mA): 8/-8; tpd @ Nom Voltage(Max)(ns): 8; Logic: True; Gate Type: OR; Sub-Family: OR Gate; DatasheetVersion: SCLS606B; PackageReference: DCK0005A; Supplier 1: Mouser; Supplier Part Number 1: 595-CAHCT1G32QDCKRQ1; Supplier 2: Digi-Key; Supplier Part Number 2: 296-23583-2-ND; Supplier 3: Digi-Key; Supplier Part Number 3: 296-23583-1-ND; Supplier 4: Digi-Key; Supplier Part Number 4: 296-23583-6-ND; Input Type: CMOS; Operating Temperature Range(C): -40 to 125; Rating: Automotive; 3-State Output: No; ComponentLink1Description: Manufacturer URL; ComponentLink1URL: http://www.ti.com/; ComponentLink2Description: Datasheet; ComponentLink2URL: http://www.ti.com/lit/ds/symlink/sn74ahct1g32-q1.pdf
footprint DCK0005A_N (SOT23, 5-Leads, Body 2.15x1.4mm, Pitch 0.65mm, IPC Medium Density)
footprint DCK0005A_M (SOT23, 5-Leads, Body 2.15x1.4mm, Pitch 0.65mm, IPC Low Density)
footprint DCK0005A_L (SOT23, 5-Leads, Body 2.15x1.4mm, Pitch 0.65mm, IPC High Density)
part A pins: 1 A (in) "Input A", 2 B (in) "Input B", 4 Y (out) "Output Y"
part B pins: 3 GND (power) "Ground Pin", 5 VCC (power) "Power Pin"

## CAHCT1G86QDCKRQ1
designator U?
Automotive Catalog Single 2-Input Exclusive-OR Gate, DCK0005A, LARGE T&R; Generic Part Number: SN74AHCT1G86-Q1; Manufacturer: Texas Instruments; PartNumber: CAHCT1G86QDCKRQ1; VCC(Min)(V): 4.5; VCC(Max)(V): 5.5; Output Type: CMOS; ICC @ Nom Voltage(Max)(mA): 0.01; Bits(#): 1; F @ Nom Voltage(Max)(Mhz): 75; Technology Family: AHCT; Voltage(Nom)(V): 5; Schmitt Trigger: No; Output Drive (IOL/IOH)(Max)(mA): 8/-8; tpd @ Nom Voltage(Max)(ns): 8; Logic: True; Gate Type: XOR; Sub-Family: XOR Gate; DatasheetVersion: SCLS721; PackageReference: DCK0005A; Supplier 1: Mouser; Supplier Part Number 1: 595-CAHCT1G86QDCKRQ1; Supplier 2: Digi-Key; Supplier Part Number 2: 296-28170-2-ND; Supplier 3: Digi-Key; Supplier Part Number 3: 296-28170-1-ND; Supplier 4: Digi-Key; Supplier Part Number 4: 296-28170-6-ND; Input Type: CMOS; Operating Temperature Range(C): -40 to 125; Rating: Automotive; 3-State Output: No; ComponentLink1Description: Manufacturer URL; ComponentLink1URL: http://www.ti.com/; ComponentLink2Description: Datasheet; ComponentLink2URL: http://www.ti.com/lit/ds/symlink/sn74ahct1g86-q1.pdf
footprint DCK0005A_N (SOT23, 5-Leads, Body 2.15x1.4mm, Pitch 0.65mm, IPC Medium Density)
footprint DCK0005A_M (SOT23, 5-Leads, Body 2.15x1.4mm, Pitch 0.65mm, IPC Low Density)
footprint DCK0005A_L (SOT23, 5-Leads, Body 2.15x1.4mm, Pitch 0.65mm, IPC High Density)
part A pins: 1 A (in) "Input A", 2 B (in) "Input B", 4 Y (out) "Output Y"
part B pins: 3 GND (power) "Ground Pin", 5 VCC (power) "Power Pin"

## CAHCT1G125QDCKRG4Q
designator U?
Automotive Catalog Single Bus Buffer Gate With 3-State Output, DCK0005A, LARGE T&R; Generic Part Number: SN74AHCT1G125-Q1; Manufacturer: Texas Instruments; PartNumber: CAHCT1G125QDCKRG4Q; VCC(Min)(V): 3; VCC(Max)(V): 5.5; Output Type: CMOS; ICC @ Nom Voltage(Max)(mA): 0.01; Bits(#): 1; F @ Nom Voltage(Max)(Mhz): 75; Technology Family: AHCT; Voltage(Nom)(V): 5; Schmitt Trigger: No; Output Drive (IOL/IOH)(Max)(mA): 8/-8; tpd @ Nom Voltage(Max)(ns): 6; Logic: True; Sub-Family: Non-Inverting Buffer/Driver; 3-State Output: Yes; DatasheetVersion: SCLS504B; PackageReference: DCK0005A; Supplier 1: Mouser; Supplier Part Number 1: 595-HCT1G125QDCKRG4Q; Supplier 2: Digi-Key; Supplier Part Number 2: 296-32044-2-ND; Supplier 3: Digi-Key; Supplier Part Number 3: 296-32044-1-ND; Supplier 4: Digi-Key; Supplier Part Number 4: 296-32044-6-ND; Input Type: CMOS; Operating Temperature Range(C): -40 to 125; Rating: Automotive; ComponentLink1Description: Manufacturer URL; ComponentLink1URL: http://www.ti.com/; ComponentLink2Description: Datasheet; ComponentLink2URL: http://www.ti.com/lit/ds/symlink/sn74ahct1g125-q1.pdf
footprint DCK0005A_N (SOT23, 5-Leads, Body 2.15x1.4mm, Pitch 0.65mm, IPC Medium Density)
footprint DCK0005A_M (SOT23, 5-Leads, Body 2.15x1.4mm, Pitch 0.65mm, IPC Low Density)
footprint DCK0005A_L (SOT23, 5-Leads, Body 2.15x1.4mm, Pitch 0.65mm, IPC High Density)
part A pins: 1 ~{OE} (in), 2 A (in), 4 Y (hiz)
part B pins: 3 GND (power), 5 VCC (power)

## CAHCT1G125QDCKRQ1
designator U?
Automotive Catalog Single Bus Buffer Gate With 3-State Output, DCK0005A, LARGE T&R; Generic Part Number: SN74AHCT1G125-Q1; Manufacturer: Texas Instruments; PartNumber: CAHCT1G125QDCKRQ1; VCC(Min)(V): 3; VCC(Max)(V): 5.5; Output Type: CMOS; ICC @ Nom Voltage(Max)(mA): 0.01; Bits(#): 1; F @ Nom Voltage(Max)(Mhz): 75; Technology Family: AHCT; Voltage(Nom)(V): 5; Schmitt Trigger: No; Output Drive (IOL/IOH)(Max)(mA): 8/-8; tpd @ Nom Voltage(Max)(ns): 6; Logic: True; Sub-Family: Non-Inverting Buffer/Driver; 3-State Output: Yes; DatasheetVersion: SCLS504B; PackageReference: DCK0005A; Supplier 1: Mouser; Supplier Part Number 1: 595-CAHCT1G125QDCKRQ; Supplier 2: Digi-Key; Supplier Part Number 2: 296-29588-2-ND; Supplier 3: Digi-Key; Supplier Part Number 3: 296-29588-1-ND; Supplier 4: Digi-Key; Supplier Part Number 4: 296-29588-6-ND; Input Type: CMOS; Operating Temperature Range(C): -40 to 125; Rating: Automotive; ComponentLink1Description: Manufacturer URL; ComponentLink1URL: http://www.ti.com/; ComponentLink2Description: Datasheet; ComponentLink2URL: http://www.ti.com/lit/ds/symlink/sn74ahct1g125-q1.pdf
footprint DCK0005A_N (SOT23, 5-Leads, Body 2.15x1.4mm, Pitch 0.65mm, IPC Medium Density)
footprint DCK0005A_M (SOT23, 5-Leads, Body 2.15x1.4mm, Pitch 0.65mm, IPC Low Density)
footprint DCK0005A_L (SOT23, 5-Leads, Body 2.15x1.4mm, Pitch 0.65mm, IPC High Density)
part A pins: 1 ~{OE} (in), 2 A (in), 4 Y (hiz)
part B pins: 3 GND (power), 5 VCC (power)

## CAHCT1G126QDCKRG4
designator U?
Automotive Catalog Single Bus Buffer Gate With 3-State Output, DCK0005A, LARGE T&R; Generic Part Number: SN74AHCT1G126-Q1; Manufacturer: Texas Instruments; PartNumber: CAHCT1G126QDCKRG4; VCC(Min)(V): 3; VCC(Max)(V): 5.5; Output Type: CMOS; ICC @ Nom Voltage(Max)(mA): 0.01; Bits(#): 1; F @ Nom Voltage(Max)(Mhz): 75; Technology Family: AHCT; Voltage(Nom)(V): 5; Schmitt Trigger: No; Output Drive (IOL/IOH)(Max)(mA): 8/-8; tpd @ Nom Voltage(Max)(ns): 6; Logic: True; Sub-Family: Non-Inverting Buffer/Driver; 3-State Output: Yes; DatasheetVersion: SCLS505B; PackageReference: DCK0005A; Supplier 1: Mouser; Supplier Part Number 1: 595-AHCT1G126QDCKRG4; Supplier 2: Digi-Key; Supplier Part Number 2: 296-23521-2-ND; Supplier 3: Digi-Key; Supplier Part Number 3: 296-23521-1-ND; Supplier 4: Digi-Key; Supplier Part Number 4: 296-23521-6-ND; Input Type: CMOS; Operating Temperature Range(C): -40 to 125; Rating: Automotive; ComponentLink1Description: Manufacturer URL; ComponentLink1URL: http://www.ti.com/; ComponentLink2Description: Datasheet; ComponentLink2URL: http://www.ti.com/lit/ds/symlink/sn74ahct1g126-q1.pdf
footprint DCK0005A_N (SOT23, 5-Leads, Body 2.15x1.4mm, Pitch 0.65mm, IPC Medium Density)
footprint DCK0005A_M (SOT23, 5-Leads, Body 2.15x1.4mm, Pitch 0.65mm, IPC Low Density)
footprint DCK0005A_L (SOT23, 5-Leads, Body 2.15x1.4mm, Pitch 0.65mm, IPC High Density)
part A pins: 1 OE (in), 2 A (in), 4 Y (hiz)
part B pins: 3 GND (power), 5 VCC (power)

## CAHCT1G126QDCKRG4Q
designator U?
Automotive Catalog Single Bus Buffer Gate With 3-State Output, DCK0005A, LARGE T&R; Generic Part Number: SN74AHCT1G126-Q1; Manufacturer: Texas Instruments; PartNumber: CAHCT1G126QDCKRG4Q; VCC(Min)(V): 3; VCC(Max)(V): 5.5; Output Type: CMOS; ICC @ Nom Voltage(Max)(mA): 0.01; Bits(#): 1; F @ Nom Voltage(Max)(Mhz): 75; Technology Family: AHCT; Voltage(Nom)(V): 5; Schmitt Trigger: No; Output Drive (IOL/IOH)(Max)(mA): 8/-8; tpd @ Nom Voltage(Max)(ns): 6; Logic: True; Sub-Family: Non-Inverting Buffer/Driver; 3-State Output: Yes; DatasheetVersion: SCLS505B; PackageReference: DCK0005A; Supplier 1: Mouser; Supplier Part Number 1: 595-HCT1G126QDCKRG4Q; Supplier 2: Digi-Key; Supplier Part Number 2: CAHCT1G126QDCKRG4Q-ND; Input Type: CMOS; Operating Temperature Range(C): -40 to 125; Rating: Automotive; ComponentLink1Description: Manufacturer URL; ComponentLink1URL: http://www.ti.com/; ComponentLink2Description: Datasheet; ComponentLink2URL: http://www.ti.com/lit/ds/symlink/sn74ahct1g126-q1.pdf
footprint DCK0005A_N (SOT23, 5-Leads, Body 2.15x1.4mm, Pitch 0.65mm, IPC Medium Density)
footprint DCK0005A_M (SOT23, 5-Leads, Body 2.15x1.4mm, Pitch 0.65mm, IPC Low Density)
footprint DCK0005A_L (SOT23, 5-Leads, Body 2.15x1.4mm, Pitch 0.65mm, IPC High Density)
part A pins: 1 OE (in), 2 A (in), 4 Y (hiz)
part B pins: 3 GND (power), 5 VCC (power)

## CAHCT1G126QDCKRQ1
designator U?
Automotive Catalog Single Bus Buffer Gate With 3-State Output, DCK0005A, LARGE T&R; Generic Part Number: SN74AHCT1G126-Q1; Manufacturer: Texas Instruments; PartNumber: CAHCT1G126QDCKRQ1; VCC(Min)(V): 3; VCC(Max)(V): 5.5; Output Type: CMOS; ICC @ Nom Voltage(Max)(mA): 0.01; Bits(#): 1; F @ Nom Voltage(Max)(Mhz): 75; Technology Family: AHCT; Voltage(Nom)(V): 5; Schmitt Trigger: No; Output Drive (IOL/IOH)(Max)(mA): 8/-8; tpd @ Nom Voltage(Max)(ns): 6; Logic: True; Sub-Family: Non-Inverting Buffer/Driver; 3-State Output: Yes; DatasheetVersion: SCLS505B; PackageReference: DCK0005A; Supplier 1: Mouser; Supplier Part Number 1: 595-CAHCT1G126QDCKRQ; Supplier 2: Digi-Key; Supplier Part Number 2: 296-32045-2-ND; Supplier 3: Digi-Key; Supplier Part Number 3: 296-32045-1-ND; Supplier 4: Digi-Key; Supplier Part Number 4: 296-32045-6-ND; Input Type: CMOS; Operating Temperature Range(C): -40 to 125; Rating: Automotive; ComponentLink1Description: Manufacturer URL; ComponentLink1URL: http://www.ti.com/; ComponentLink2Description: Datasheet; ComponentLink2URL: http://www.ti.com/lit/ds/symlink/sn74ahct1g126-q1.pdf
footprint DCK0005A_N (SOT23, 5-Leads, Body 2.15x1.4mm, Pitch 0.65mm, IPC Medium Density)
footprint DCK0005A_M (SOT23, 5-Leads, Body 2.15x1.4mm, Pitch 0.65mm, IPC Low Density)
footprint DCK0005A_L (SOT23, 5-Leads, Body 2.15x1.4mm, Pitch 0.65mm, IPC High Density)
part A pins: 1 OE (in), 2 A (in), 4 Y (hiz)
part B pins: 3 GND (power), 5 VCC (power)

## CAUC1G125MDCKREP
designator U?
Enhanced Product Single Bus Buffer Gate With 3-State Output, DCK0005A, LARGE T&R; Generic Part Number: SN74AUC1G125-EP; Manufacturer: Texas Instruments; PartNumber: CAUC1G125MDCKREP; VCC(Min)(V): 0.8; VCC(Max)(V): 2.7; Output Type: CMOS; ICC @ Nom Voltage(Max)(mA): 0.01; Bits(#): 1; F @ Nom Voltage(Max)(Mhz): 250; Rating: HiRel Enhanced Product; Technology Family: AUC; Voltage(Nom)(V): 0.8,1.2,1.5,1.8,2.5; Schmitt Trigger: No; Output Drive (IOL/IOH)(Max)(mA): 9/-9; tpd @ Nom Voltage(Max)(ns): 4.7,7.5,6,5.5,5; Logic: True; Sub-Family: Non-Inverting Buffer/Driver; 3-State Output: Yes; DatasheetVersion: SCES670; PackageReference: DCK0005A; Supplier 1: Mouser; Supplier Part Number 1: 595-CAUC1G125MDCKREP; Supplier 2: Digi-Key; Supplier Part Number 2: 296-22096-2-ND; Supplier 3: Digi-Key; Supplier Part Number 3: 296-22096-1-ND; Supplier 4: Digi-Key; Supplier Part Number 4: 296-22096-6-ND; Input Type: CMOS; Operating Temperature Range(C): -55 to 125; ComponentLink1Description: Manufacturer URL; ComponentLink1URL: http://www.ti.com/; ComponentLink2Description: Datasheet; ComponentLink2URL: http://www.ti.com/lit/ds/symlink/sn74auc1g125-ep.pdf
footprint DCK0005A_N (SOT23, 5-Leads, Body 2.15x1.4mm, Pitch 0.65mm, IPC Medium Density)
footprint DCK0005A_M (SOT23, 5-Leads, Body 2.15x1.4mm, Pitch 0.65mm, IPC Low Density)
footprint DCK0005A_L (SOT23, 5-Leads, Body 2.15x1.4mm, Pitch 0.65mm, IPC High Density)
part A pins: 1 ~{OE} (in), 2 A (in), 4 Y (hiz)
part B pins: 3 GND (power), 5 VCC (power)

## CAVC2T45TDCURQ1
designator U?
Automotive Catalog Dual-Bit Dual-Supply Bus Transceiver with Config Voltage Translation and 3-State, DCU0008A, LARGE T&R; Generic Part Number: SN74AVC2T45-Q1; Manufacturer: Texas Instruments; PartNumber: CAVC2T45TDCURQ1; VCC(Min)(V): 1.2; VCC(Max)(V): 3.6; Output Type: CMOS; Logic: True; ICC @ Nom Voltage(Max)(mA): 0.01; Bits(#): 2; F @ Nom Voltage(Max)(Mhz): 100; Technology Family: AVC; Voltage(Nom)(V): 1.2,1.5,1.8,2.5,3.3; Schmitt Trigger: No; Output Drive (IOL/IOH)(Max)(mA): 12/-12; Sub-Family: Dual Supply Translator; 3-State Output: Yes; tpd @ Nom Voltage(Max)(ns): 3.1,2.6,2.4,2.2; DatasheetVersion: SCES813; PackageReference: DCU0008A; Supplier 1: Mouser; Supplier Part Number 1: 595-CAVC2T45TDCURQ1; Supplier 2: Digi-Key; Supplier Part Number 2: 296-36572-2-ND; Supplier 3: Digi-Key; Supplier Part Number 3: 296-36572-1-ND; Supplier 4: Digi-Key; Supplier Part Number 4: 296-36572-6-ND; Input Type: CMOS; Operating Temperature Range(C): -40 to 125; Rating: Automotive; ComponentLink1Description: Manufacturer URL; ComponentLink1URL: http://www.ti.com/; ComponentLink2Description: Datasheet; ComponentLink2URL: http://www.ti.com/lit/ds/symlink/sn74avc2t45-q1.pdf
footprint DCU0008A_N (SOP, 8-Leads, Body 2.4x2.1mm, Pitch 0.5mm, IPC Medium Density)
footprint DCU0008A_M (SOP, 8-Leads, Body 2.4x2.1mm, Pitch 0.5mm, IPC Low Density)
footprint DCU0008A_L (SOP, 8-Leads, Body 2.4x2.1mm, Pitch 0.5mm, IPC High Density)
pins: 1 VCCA (power) "Supply Voltage A", 2 A1 (io) "Output or input depending on state of DIR. Output level depends on VCCA", 3 A2 (io) "Output or input depending on state of DIR. Output level depends on VCCA", 4 GND (power) "Ground", 5 DIR (in) "Direction Pin, Connect to GND or to VCCA", 6 B2 (io) "Output or input depending on state of DIR. Output level depends on VCCB.", 7 B1 (io) "Output or input depending on state of DIR. Output level depends on VCCB.", 8 VCCB (power) "Supply Voltage B"